# EAGLE library part SMS05T1 (library OpenMotics)
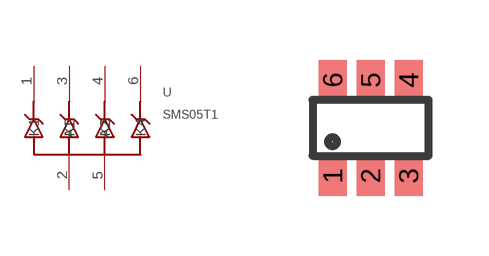
[diagram p36: symbol with the pads of SC-74; footprint SC-74]

Designator prefix U

## SMS05T1  [SC-74]
1  K1
2  A1
3  K2
4  K3
5  A2
6  K4

## Footprint SC-74 (pad centres in mm)
smd 0.7 x 1: 1 -0.95,-1.2; 2 0,-1.2; 3 0.95,-1.2; 4 0.95,1.2; 5 0,1.2; 6 -0.95,1.2